# EAGLE library part DMC56404 (library Revolve)
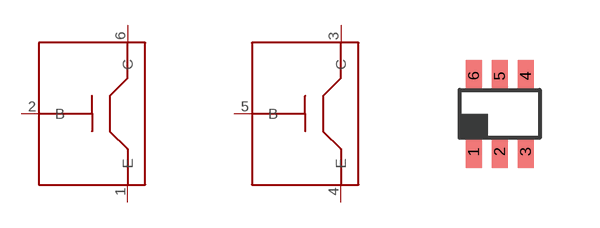
[diagram p5: symbol with the pads of SMINI6-F3-B; footprint SMINI6-F3-B]

Designator prefix -; gates G$1=DMC56404 G$2=DMC56404

## DMC56404  [SMINI6-F3-B]
1  G$1:E  pwr
2  G$1:B  in
3  G$2:C  pas
4  G$2:E  pwr
5  G$2:B  in
6  G$1:C  pas

## Footprint SMINI6-F3-B (pad centres in mm)
smd 0.4 x 0.8: 1 -0.65,-0.95; 2 0,-0.95; 3 0.65,-0.95; 4 0.65,0.95; 5 0,0.95; 6 -0.65,0.95